# Altium footprint library TEXASINSTRUMENTS_PKG_DQA0009A.PcbLib: 1 footprints
Each footprint in its own frame and in the unit in brackets; x right, y up, seen from the top. Pads: shape width x height; smd on the part's side, far side on the other; paste and mask are expansions set on the pad; w line width, h text height; cw(c..) or ccw(c..) is an arc to the next point about the centre after c.
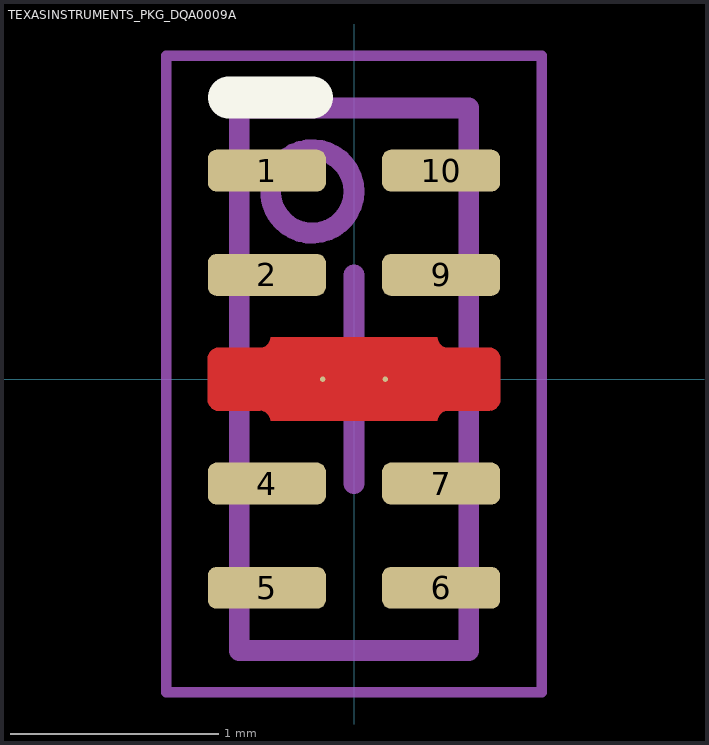
[diagram p0: the footprint, top view; thin cyan lines are the x and y axes]

## TEXASINSTRUMENTS_PKG_DQA0009A [mm]
height 0.55
pads (10):
  rrect40% 0.565x0.2 smd paste+0 mask+0.07: 1(-0.417,1) 2(-0.417,0.5) 4(-0.417,-0.5) 5(-0.417,-1) 6(0.417,-1) 7(0.417,-0.5) 9(0.417,0.5) 10(0.417,1)
  round 0.025 smd paste-2539.97: 3(-0.15,0) 8(0.15,0)
Top Layer:
  region: 0.65,-0.15 0.66,-0.15 0.678,-0.142 0.692,-0.128 0.7,-0.11 0.7,-0.1 0.7,0.1 0.7,0.11 0.692,0.128 0.678,0.142 0.66,0.15 0.65,0.15 0.45,0.15 0.44,0.151 0.422,0.158 0.408,0.172 0.401,0.19 0.4,0.2 -0.4,0.2 -0.4,-0.2 0.4,-0.2 0.401,-0.19 0.408,-0.172 0.422,-0.158 0.44,-0.151 0.45,-0.15
  region: -0.65,-0.15 -0.66,-0.15 -0.678,-0.142 -0.692,-0.128 -0.7,-0.11 -0.7,-0.1 -0.7,0.1 -0.7,0.11 -0.692,0.128 -0.678,0.142 -0.66,0.15 -0.65,0.15 -0.45,0.15 -0.44,0.151 -0.422,0.158 -0.408,0.172 -0.401,0.19 -0.4,0.2 0.4,0.2 0.4,-0.2 -0.4,-0.2 -0.401,-0.19 -0.408,-0.172 -0.422,-0.158 -0.44,-0.151 -0.45,-0.15
Top Overlay:
  lines w0.2: -0.6,1.35 -0.2,1.35
Top Paste:
  region: -0.65,-0.15 -0.66,-0.15 -0.678,-0.142 -0.692,-0.128 -0.7,-0.11 -0.7,-0.1 -0.7,0.1 -0.7,0.11 -0.692,0.128 -0.678,0.142 -0.66,0.15 -0.65,0.15 -0.45,0.15 -0.44,0.151 -0.422,0.158 -0.408,0.172 -0.401,0.19 -0.4,0.2 -0.1,0.2 -0.1,-0.2 -0.4,-0.2 -0.401,-0.19 -0.408,-0.172 -0.422,-0.158 -0.44,-0.151 -0.45,-0.15
  region: 0.65,-0.15 0.66,-0.15 0.678,-0.142 0.692,-0.128 0.7,-0.11 0.7,-0.1 0.7,0.1 0.7,0.11 0.692,0.128 0.678,0.142 0.66,0.15 0.65,0.15 0.45,0.15 0.44,0.151 0.422,0.158 0.408,0.172 0.401,0.19 0.4,0.2 0.1,0.2 0.1,-0.2 0.4,-0.2 0.401,-0.19 0.408,-0.172 0.422,-0.158 0.44,-0.151 0.45,-0.15
Mechanical 13:
  circle w0.1: c-0.2,0.9 r0.2
  lines w0.1: -0.55,-1.3 -0.55,1.3 0.55,1.3 0.55,-1.3 -0.55,-1.3
Mechanical 15:
  lines w0.05: -0.9,-1.5 0.9,-1.5 0.9,1.55 -0.9,1.55 -0.9,-1.5
  lines w0.1: -0.5,0 0.5,0 ; 0,-0.5 0,0.5
3D body: height 0.51, standoff 0, extent -0.55,-1.3 0.55,1.3